# Altium footprint library Molex Power Pin.PcbLib: 1 footprints
Each footprint in its own frame and in the unit in brackets; x right, y up, seen from the top. Pads: shape width x height; smd on the part's side, far side on the other; paste and mask are expansions set on the pad; w line width, h text height; cw(c..) or ccw(c..) is an arc to the next point about the centre after c.
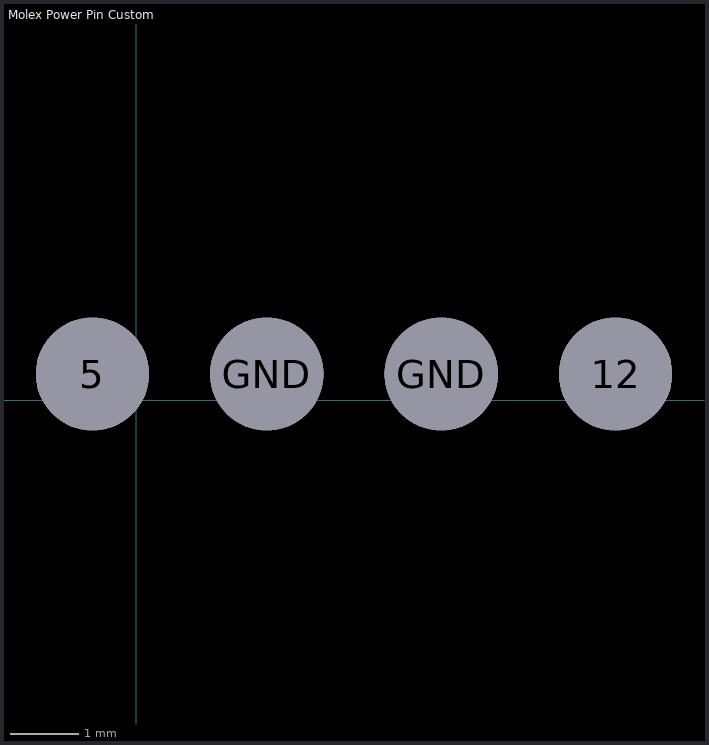
[diagram p0: the footprint, top view; thin cyan lines are the x and y axes]

## Molex Power Pin Custom [mil]
pads (4):
  round 65 hole 65: 5(-25,15) 12(275,15) GND(75,15) GND(175,15)